# Altium footprint library 6 Pin 100 mil Right Angle Header - Surface Mount.PcbLib: 1 footprints
Each footprint in its own frame and in the unit in brackets; x right, y up, seen from the top. Pads: shape width x height; smd on the part's side, far side on the other; paste and mask are expansions set on the pad; w line width, h text height; cw(c..) or ccw(c..) is an arc to the next point about the centre after c.
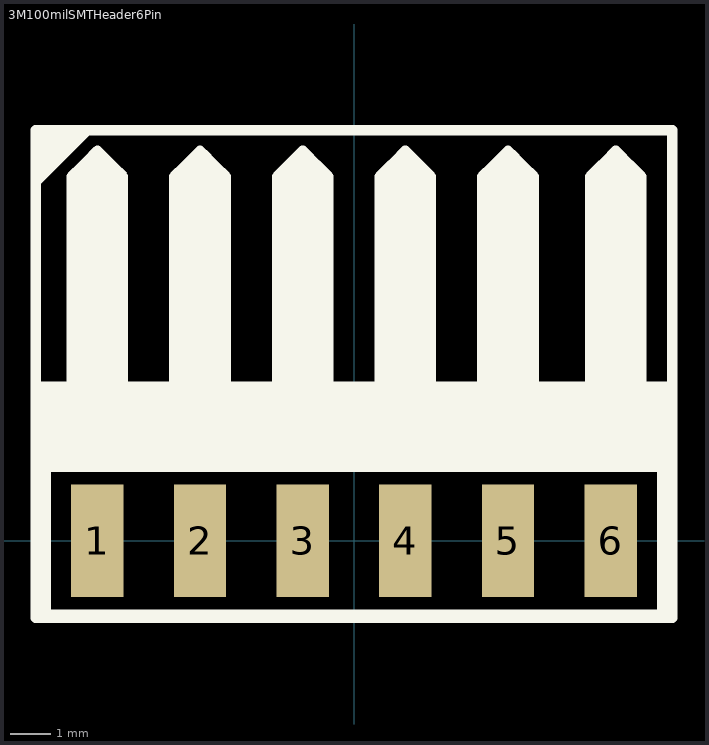
[diagram p0: the footprint, top view; thin cyan lines are the x and y axes]

## 3M100milSMTHeader6Pin [mil]
pads (6):
  rect 51x110 smd: 1(-250,0) 2(-150,0) 3(-50,0) 4(50,0) 5(150,0) 6(250,0)
Top Overlay:
  rectangle: -300,70 300,150
  lines w7.87: -300,79.53 -302.17,81.69 -302.17,142.72 -300,144.88 -300,150 ; 300,70 302.17,72.17 302.17,142.72
  lines w10: -310,350 -260,400 ; -300,70 -310,80 -310,150 310,150 310,71.85 -300,71.85 -300,45 -300,-71.85 300,-71.85 300,70 ; -300,390 -310,400 ; -290,400 -310,380 ; -275,155 -275,355 -265,365 ; -265,155 -265,365 ; -250,150 -250,380 ; -235,155 -235,365 ; -225,155 -225,355 -235,365 ; -175,155 -175,355 -165,365 ; -165,155 -165,365 ; -135,155 -135,365 ; -125,155 -125,355 -135,365 ; -75,155 -75,355 -65,365 ; -65,155 -65,365 ; -35,155 -35,365 ; -25,155 -25,355 -35,365 ; 25,155 25,355 35,365 ; 35,155 35,365 ; 65,155 65,365 ; 75,155 75,355 65,365 ; 125,155 125,355 135,365 ; 135,155 135,365 ; 165,155 165,365 ; 175,155 175,355 165,365 ; 230,155 230,355 240,365 ; 240,155 240,365 ; 270,155 270,365 ; 280,155 280,355 270,365 ; -310,380 -310,400 ; -310,380 -310,360 -270,400 -280,400 -310,370 -310,380 ; -310,400 310,400 310,-75 -310,-75 -310,400 ; -265,365 -260,370 ; -260,370 -260,150 -260,370 ; -260,370 -250,380 ; -250,380 -245,375 ; -245,375 -240,370 ; -245,375 -245,155 -240,150 -240,370 ; -240,370 -235,365 ; -165,365 -160,370 ; -160,370 -150,380 ; -160,370 -160,150 -160,370 ; -150,380 -150,150 -150,380 ; -150,380 -145,375 ; -145,375 -145,155 -140,150 -140,370 ; -145,375 -140,370 ; -140,370 -135,365 ; -65,365 -60,370 ; -60,370 -50,380 ; -60,370 -60,150 -60,370 ; -50,380 -50,150 -50,380 ; -50,380 -45,375 ; -45,375 -45,155 -40,150 -40,370 ; -45,375 -40,370 ; -40,370 -35,365 ; 35,365 40,370 ; 40,370 50,380 ; 40,370 40,150 40,370 ; 50,380 50,150 50,380 ; 50,380 55,375 ; 55,375 55,155 60,150 60,370 ; 55,375 60,370 ; 60,370 65,365 ; 135,365 140,370 ; 140,370 150,380 ; 140,370 140,150 140,370 ; 150,380 150,150 150,380 ; 150,380 155,375 ; 155,375 155,155 160,150 160,370 ; 155,375 160,370 ; 160,370 165,365 ; 240,365 245,370 ; 245,370 255,380 ; 245,370 245,150 245,370 ; 255,380 255,150 255,380 ; 255,380 260,375 ; 260,375 260,155 265,150 265,370 ; 260,375 265,370 ; 265,370 270,365